# Altium footprint library T491A104K035AT.PcbLib: 1 footprints
Each footprint in its own frame and in the unit in brackets; x right, y up, seen from the top. Pads: shape width x height; smd on the part's side, far side on the other; paste and mask are expansions set on the pad; w line width, h text height; cw(c..) or ccw(c..) is an arc to the next point about the centre after c.
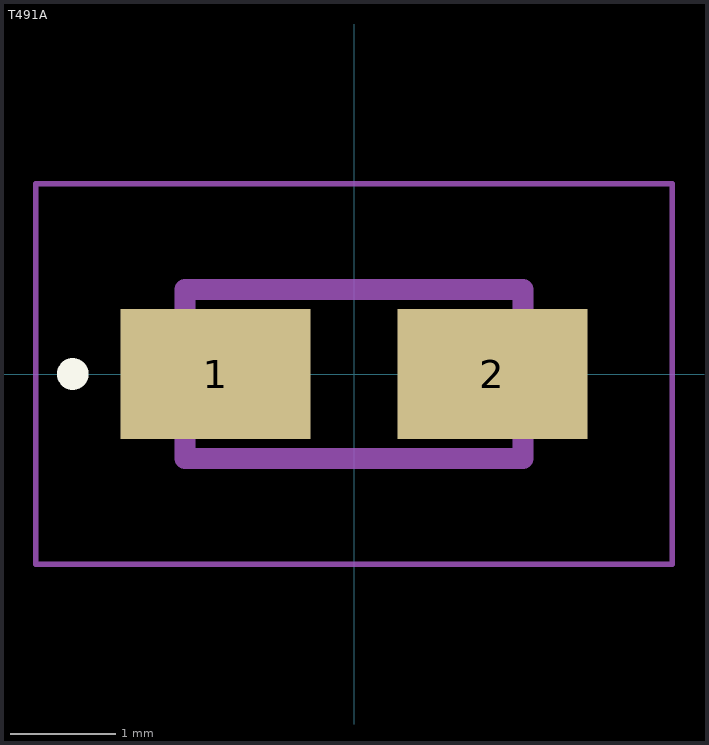
[diagram p0: the footprint, top view; thin cyan lines are the x and y axes]

## T491A [mm]
pads (2):
  rect 1.8x1.23 smd: 1(-1.31,0) 2(1.31,0)
Top Overlay:
  circle w0.2: c-2.66,0 r0.05
Mechanical 15:
  lines w0.2: -1.6,-0.8 -1.6,0.8 1.6,0.8 1.6,-0.8 -1.6,-0.8
Mechanical 20:
  lines w0.05: -3.01,-1.8 -3.01,1.8 3.01,1.8 3.01,-1.8 -3.01,-1.8
3D body "T491A104K035AT.stp": height 1.81, standoff 0, extent -1.573,-0.911 1.827,0.889